# Altium footprint library 杂项库.PcbLib: 585 footprints (part 12 of 37)
Each footprint in its own frame and in the unit in brackets; x right, y up, seen from the top. Pads: shape width x height; smd on the part's side, far side on the other; paste and mask are expansions set on the pad; w line width, h text height; cw(c..) or ccw(c..) is an arc to the next point about the centre after c.
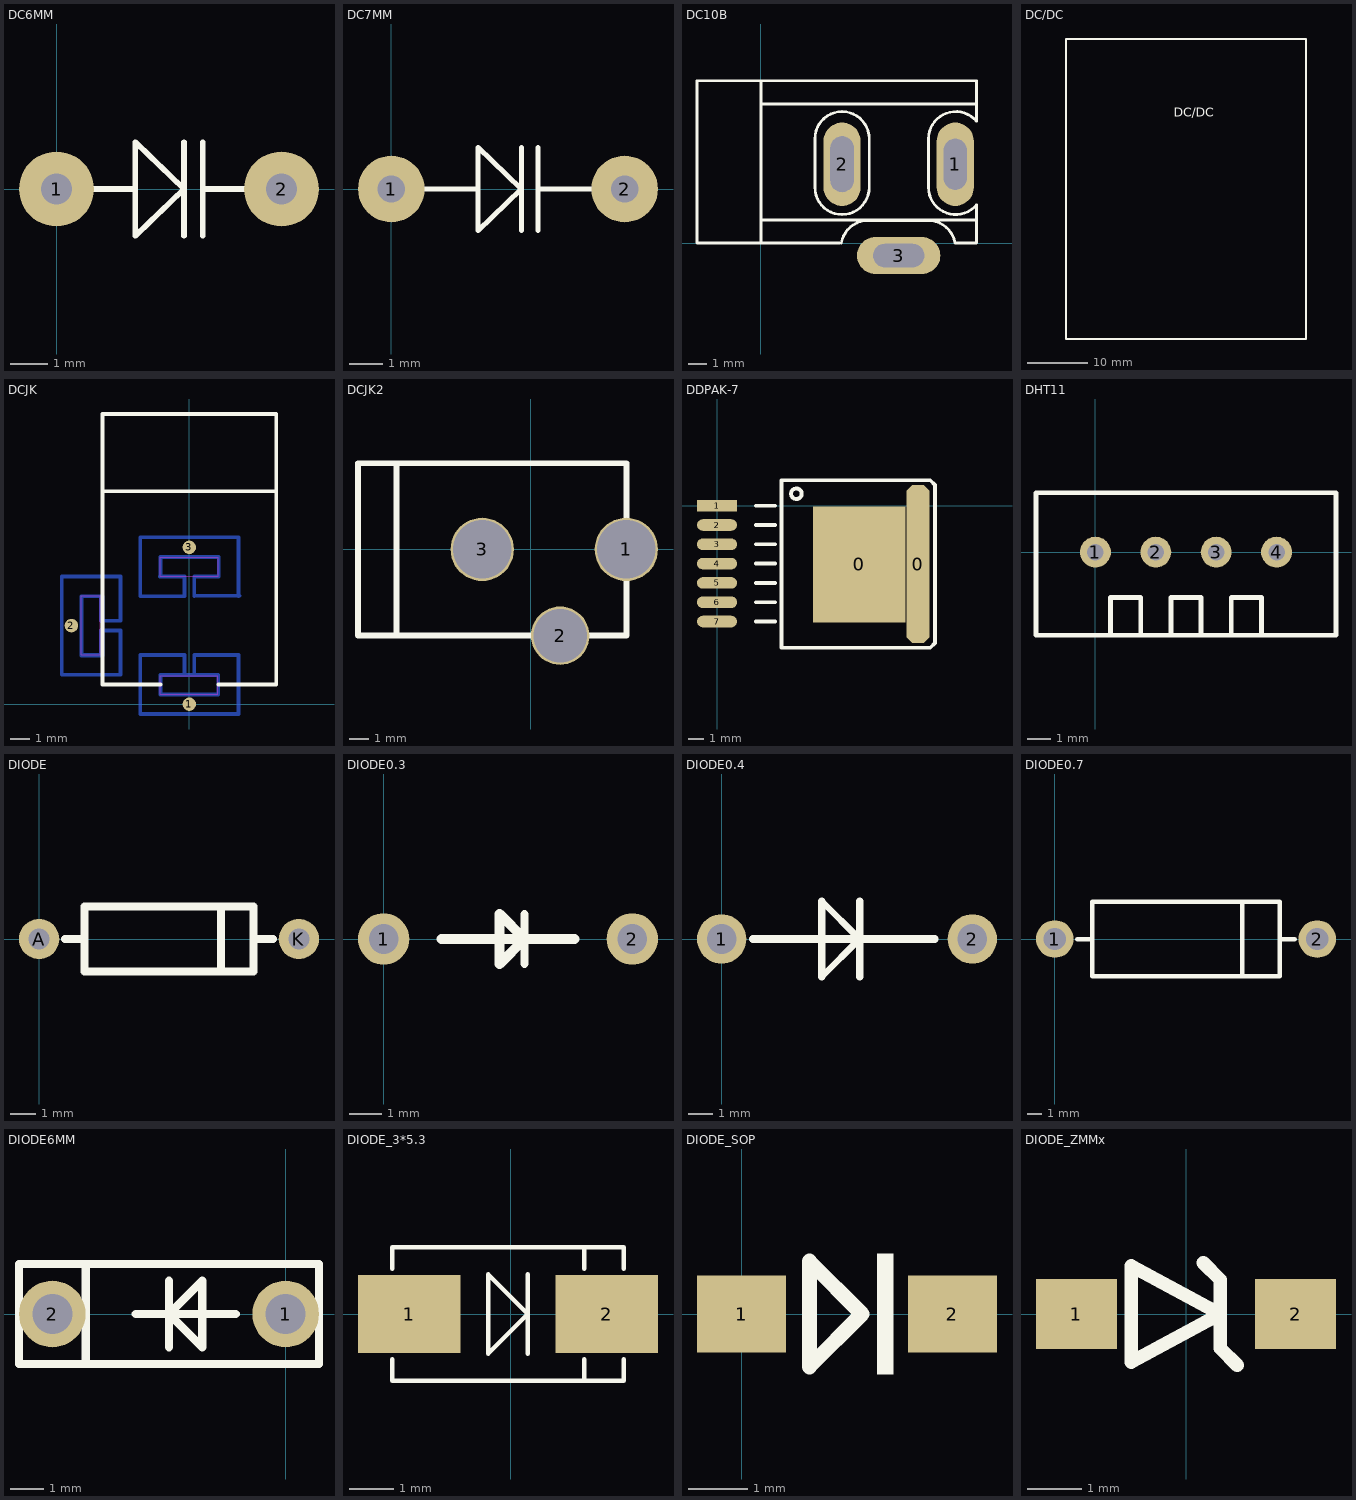
[diagram p11: the footprints below, top view; thin cyan lines are the x and y axes]

## DC6MM [mm]
pads (2):
  round 2 hole 0.82: 1(0,0) 2(6,0)
Top Overlay:
  lines w0.15: 0,0 2.1,0 ; 3.4,-1.25 3.4,1.25 ; 3.9,-1.25 3.9,1.25 ; 3.9,0 6,0 ; 2.1,-1.25 3.4,0 2.1,1.25 2.1,-1.25

## DC7MM [mm]
pads (2):
  round 2 hole 0.82: 1(0,0) 2(7,0)
Top Overlay:
  lines w0.15: 0,0 2.6,0 ; 3.9,-1.25 3.9,1.25 ; 4.4,-1.25 4.4,1.25 ; 4.4,0 7,0 ; 2.6,-1.25 2.6,1.25 3.9,0 2.6,-1.25

## DC10B [mil]
pads (3):
  oval 80x180 hole 50 slot 110 at 90 deg: 1(419.09,170)
  oval 80x180 hole 50 slot 120 at 90 deg: 2(175,170)
  oval 180x80 hole 50 slot 110 at 0 deg: 3(297.05,-26.85)
Top Overlay:
  lines w6: 0,50 465,50 ; 0,300 460.13,300 464.25,300 ; 5,350 -15,350 -137.8,350 -137.8,0 0,0 ; 169,0 0,0 ; 173.37,0.16 cw(c231,-10) 231,48.52 361,48.52 cw(c361,-10) 418.63,0.16 ; 420,0 465,0 465,80 ; 464.83,82.38 cw(c420,120) 361.48,120 361.48,225 cw(c420,225) 464.83,262.62 465,350 0,350 0,0 ; 233.52,225 ccw(c175,225) 116.48,225 116.48,120 ccw(c175,120) 233.52,120 233.52,225 ; 233.52,225 233.52,225

## DC/DC [mil]
Top Overlay:
  lines w10: 14015.75,-16496.06 14015.75,-14527.56 15590.55,-14527.56 15590.55,-16496.06 14015.75,-16496.06
  text "DC/DC" at 14724.41,-15039.37 h60

## DCJK [mm]
pads (3):
  round 0.7 all layers, no hole: 1(0,0) 2(-6.1,4.066) 3(0,8.116)
Bottom Layer:
  lines w0.2: -1.524,6.604 -0.254,6.604 -0.254,5.588 -2.54,5.588 -2.54,8.636 2.54,8.636 2.54,5.588 ; -1.5,1.016 -1.5,1.516 ; -1.5,6.604 -1.5,7.616 1.5,7.616 ; -0.254,1.524 -0.254,2.54 -2.54,2.54 -2.54,-0.508 2.54,-0.508 2.54,2.54 0.254,2.54 0.254,1.524 ; 0.254,5.588 0.254,6.604 1.524,6.604 1.524,7.62 ; 0.317,5.608 2.603,5.608 ; 1.5,1.016 1.5,1.516 ; -5.588,5.588 -4.572,5.588 -4.572,4.318 -3.556,4.318 -3.556,6.604 -6.604,6.604 -6.604,1.524 -3.556,1.524 -3.556,3.81 -4.572,3.81 -4.572,2.54 -5.588,2.54 -5.588,5.588 ; -5.588,5.588 -5.588,2.516 -4.5,2.516 -4.5,5.588 -5.588,5.588 ; -1.5,1.516 1.5,1.516 ; -1.5,1.516 -1.5,0.508 1.5,0.508 1.5,1.516
Top Overlay:
  lines w0.2: -4.5,11.016 4.5,11.016 ; -1.5,1.016 -4.5,1.016 -4.5,15.016 4.5,15.016 4.5,1.016 1.5,1.016
Keep-Out Layer:
  lines w0.05: -5.597,2.558 -4.597,2.558 -4.597,5.608 -5.597,5.608 -5.597,2.558 ; -1.497,0.508 -1.497,1.483 1.478,1.483 1.478,0.508 -1.497,0.508 ; -1.497,6.608 -1.497,7.608 1.503,7.608 1.503,6.608 -1.497,6.608

## DCJK2 [mil]
pads (3):
  round 130 hole 120: 1(196,0) 3(-100,0)
  round 120 hole 110: 2(60,-177)
Top Overlay:
  lines w12: -276,-177 -276,177 ; 98,-177 196,-177 196,177 -355,177 -355,-177 117,-177

## DDPAK-7 [mil]
pads (9):
  rect 240x300 smd: 0(368,-152)
  oct 60x410 smd: 0(520,-151)
  rect 104x30 smd: 1(0,0)
  oval 104x30 smd: 2(0,-50) 3(0,-100) 4(0,-150) 5(0,-200) 6(0,-250) 7(0,-300)
Top Overlay:
  circle w10: c205.4,31 r13.6
  lines w10: 100,-300 150,-300 ; 100,-250 150,-250 ; 100,-200 150,-200 ; 100,-150 150,-150 ; 100,-100 150,-100 ; 100,-50 150,-50 ; 100,0 150,0 ; 167,-368 537,-368 552,-368 564,-356 564,54 552,66 537,66 167,66 167,-368

## DHT11 [mm]
pads (4):
  round 1.3 hole 0.7: 1(0,0) 2(2.54,0) 3(5.08,0) 4(7.62,0)
Top Overlay:
  lines w0.203: -2.5,-3.5 7.62,-3.5 10.12,-3.5 ; -2.5,-3.46 -2.5,0 -2.5,2.5 7.62,2.5 10.12,2.5 10.12,0 10.12,-3.46 ; 0.635,-3.5 0.635,-1.905 1.905,-1.905 1.905,-3.5 ; 3.175,-3.5 3.175,-1.905 4.445,-1.905 4.445,-3.5 ; 5.715,-3.5 5.715,-1.905 6.985,-1.905 6.985,-3.5

## DIODE [mil]
pads (2):
  round 62 hole 32: A(0,0) K(400,0)
Top Overlay:
  lines w12: 40,0 70,0 ; 280,-50 280,50 ; 330,0 360,0 ; 70,-50 70,50 330,50 330,-50 70,-50

## DIODE0.3 [mil]
pads (2):
  round 62 hole 36: 1(0,0) 2(300,0)
Top Overlay:
  lines w10: 170,-30 170,30
  lines w12: 70,0 230,0 ; 140,-30 140,30 170,0 140,-30

## DIODE0.4 [mm]
pads (2):
  round 2 hole 1.2: 1(0,0) 2(10.16,0)
Top Overlay:
  lines w0.254: 4.064,-1.524 5.588,0 4.064,1.524
  lines w0.305: 1.27,0 8.636,0 ; 4.064,-1.524 4.064,1.524 ; 5.588,-1.524 5.588,1.524

## DIODE0.7 [mm]
pads (2):
  round 2.54 hole 1.5: 1(0,0) 2(17.78,0)
Top Overlay:
  lines w0.305: 1.524,0 2.54,0 ; 12.7,-2.54 12.7,2.54 ; 15.24,0 16.256,0 ; 2.54,-2.54 15.24,-2.54 15.24,2.54 2.54,2.54 2.54,-2.54

## DIODE6MM [mm]
pads (2):
  round 2 hole 1.2: 1(0,0) 2(-7,0)
Top Overlay:
  lines w0.254: -6,-1.5 -6,1.5 ; -4.5,0 -1.5,0 ; -3.5,-1 -3.5,1 ; -8,-1.5 1,-1.5 1,1.5 -8,1.5 -8,-1.5 ; -3.5,0 -2.5,1 -2.5,-1 -3.5,0

## DIODE_3*5.3 [mm]
pads (2):
  rect 2.3x1.75 smd: 1(-2.286,0) 2(2.159,0)
Top Overlay:
  lines w0.1: -2.667,-1.016 -2.667,-1.5 2.54,-1.5 2.54,-1.016 ; -2.667,1.016 -2.667,1.5 2.54,1.5 2.54,1.016 ; 0.381,-0.889 0.381,0.889 ; 1.651,-1.5 1.651,-1.016 ; 1.651,1.016 1.651,1.5 ; -0.508,-0.889 0.381,0 -0.508,0.889 -0.508,-0.889

## DIODE_SOP [mm]
pads (2):
  rect 1.5x1.3 smd: 1(0,0) 2(3.556,0)
Top Overlay:
  rectangle: 2.286,-1.016 2.559,1.016
  lines w0.254: 1.143,-0.889 2.032,0 1.143,0.889 1.143,-0.889

## DIODE_ZMMx [mm]
pads (2):
  rect 1.5x1.3 smd: 1(-2.032,0) 2(2.032,0)
Top Overlay:
  lines w0.254: 0.318,0.953 0.635,0.635 0.635,-0.635 0.953,-0.953 ; -1.016,-0.889 0.635,0 -1.016,0.889 -1.016,-0.889